# Altium schematic symbol library SCHMITT_TRIGGER.SchLib: 1 symbol
Pins are listed as number, name and electrical type; pins without a type are passive.

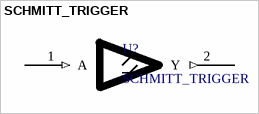
[diagram p0: symbol SCHMITT_TRIGGER]

## SCHMITT_TRIGGER
designator U?
Schmitt trigger symbol
pins: 1 A (in), 2 Y (out)